# EAGLE library part USB_C_24P (library pimoroni-connectors)
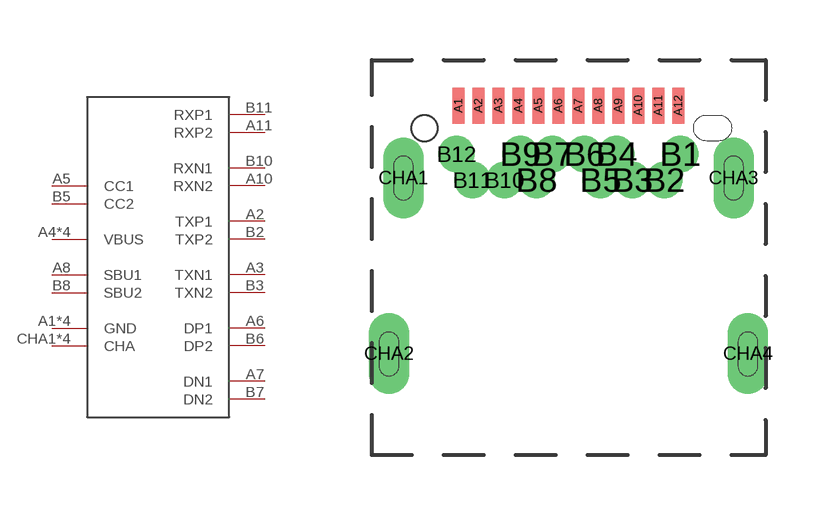
[diagram p28: symbol with the pads of USB-C-24P-NODUMMY; footprint USB-C-24P-NODUMMY]

Designator prefix -

## USB_C_24P  [USB-C-24P-NODUMMY]
A1  GND  pwr
A2  TXP1
A3  TXN1
A4  VBUS  pwr
A5  CC1
A6  DP1
A7  DN1
A8  SBU1
A9  VBUS  pwr
A10  RXN2
A11  RXP2
A12  GND  pwr
B1  GND  pwr
B2  TXP2
B3  TXN2
B4  VBUS  pwr
B5  CC2
B6  DP2
B7  DN2
B8  SBU2
B9  VBUS  pwr
B10  RXN1
B11  RXP1
B12  GND  pwr
CHA1  CHA  pwr
CHA2  CHA  pwr
CHA3  CHA  pwr
CHA4  CHA  pwr

## Footprint USB-C-24P-NODUMMY (pad centres in mm)
smd 0.3 x 0.9: A1 0.85,0.56; A2 1.35,0.56; A3 1.85,0.56; A4 2.35,0.56; A5 2.85,0.56; A6 3.35,0.56; A7 3.85,0.56; A8 4.35,0.56; A9 4.85,0.56; A10 5.35,0.56; A11 5.85,0.56; A12 6.35,0.56
drill 0.4 pad 0.6: B1 6.4,-0.65; B2 6,-1.3; B3 5.2,-1.3; B4 4.8,-0.65; B5 4.4,-1.3; B6 4,-0.65; B7 3.2,-0.65; B8 2.8,-1.3; B9 2.4,-0.65; B10 2,-1.3; B11 1.2,-1.3; B12 0.8,-0.65
drill 0.5 pad 0.65 long: CHA1 -0.53,-1.25; CHA2 -0.89,-5.64; CHA3 7.73,-1.25; CHA4 8.09,-5.64
hole 0.65 at 0,0